# EAGLE library part AMC1350QDWVRQ1 (library AMC1350QDWVRQ1)
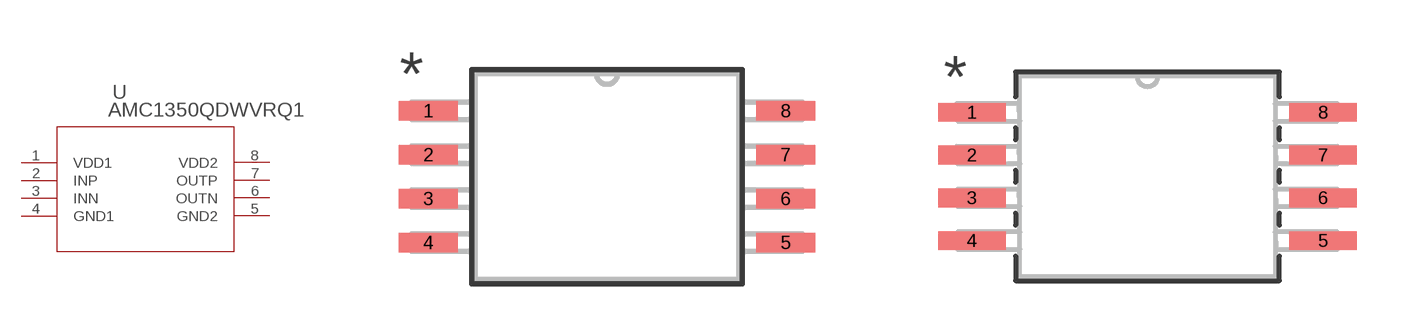
[diagram p0: symbol with the pads of AMC1350QDWVRQ1_TEX; footprints AMC1350QDWVRQ1_TEX, AMC1350QDWVRQ1_TEX-M]

Designator prefix U

## AMC1350QDWVRQ1 (COPYRIGHT: Copyright (C) 2022 Ultra Librarian. All rights reserved.; MANUFACTURER_PART_NUMBER: AMC1350QDWVRQ1; MFR_NAME: Texas Instruments)  [AMC1350QDWVRQ1_TEX]
1  VDD1  pwr
2  INP  in
3  INN  in
4  GND1  pas
5  GND2  pas
6  OUTN  out
7  OUTP  out
8  VDD2  pwr

## AMC1350QDWVRQ1AMC1350QDWVRQ1_TEX-M (COPYRIGHT: Copyright (C) 2022 Ultra Librarian. All rights reserved.; MANUFACTURER_PART_NUMBER: AMC1350QDWVRQ1; MFR_NAME: Texas Instruments)  [AMC1350QDWVRQ1_TEX-M]
Pads as for AMC1350QDWVRQ1_TEX

## AMC1350QDWVRQ1AMC1350QDWVRQ1_TEX-L (COPYRIGHT: Copyright (C) 2022 Ultra Librarian. All rights reserved.; MANUFACTURER_PART_NUMBER: AMC1350QDWVRQ1; MFR_NAME: Texas Instruments)  [AMC1350QDWVRQ1_TEX-L]
Pads as for AMC1350QDWVRQ1_TEX

## Footprint AMC1350QDWVRQ1_TEX (pad centres in mm)
smd 1.702 x 0.559: 1 -5.156,1.905; 2 -5.156,0.635; 3 -5.156,-0.635; 4 -5.156,-1.905; 5 5.156,-1.905; 6 5.156,-0.635; 7 5.156,0.635; 8 5.156,1.905

## Footprint AMC1350QDWVRQ1_TEX-M (pad centres in mm)
smd 2.007 x 0.559: 1 -5.207,1.905; 2 -5.207,0.635; 3 -5.207,-0.635; 4 -5.207,-1.905; 5 5.207,-1.905; 6 5.207,-0.635; 7 5.207,0.635; 8 5.207,1.905

## Footprint AMC1350QDWVRQ1_TEX-L (pad centres in mm)
smd 1.397 x 0.508: 1 -5.105,1.905; 2 -5.105,0.635; 3 -5.105,-0.635; 4 -5.105,-1.905; 5 5.105,-1.905; 6 5.105,-0.635; 7 5.105,0.635; 8 5.105,1.905